# EAGLE library part CY8CKIT-059_BOTTOM_ROW (library CYKIT)
CY8CKIT-059 BOTTOM ROW This is the bottom row of pins of the CY8CKIT-059.
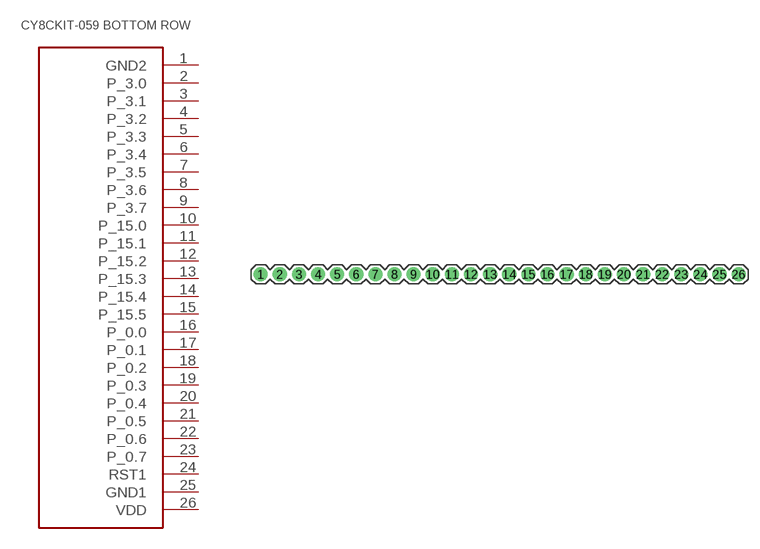
[diagram p6: symbol with the pads of CY8CKIT-059_TARGET_SINGLE_ROW; footprint CY8CKIT-059_TARGET_SINGLE_ROW]

Designator prefix -

## CY8CKIT-059_BOTTOM_ROW  [CY8CKIT-059_TARGET_SINGLE_ROW]
1  GND2  pas
2  P_3.0  pas
3  P_3.1  pas
4  P_3.2  pas
5  P_3.3  pas
6  P_3.4  pas
7  P_3.5  pas
8  P_3.6  pas
9  P_3.7  pas
10  P_15.0  pas
11  P_15.1  pas
12  P_15.2  pas
13  P_15.3  pas
14  P_15.4  pas
15  P_15.5  pas
16  P_0.0  pas
17  P_0.1  pas
18  P_0.2  pas
19  P_0.3  pas
20  P_0.4  pas
21  P_0.5  pas
22  P_0.6  pas
23  P_0.7  pas
24  RST1  pas
25  GND1  pas
26  VDD  pas

## Footprint CY8CKIT-059_TARGET_SINGLE_ROW (pad centres in mm)
Plated Through Hole -26 Specifications: Pin count:26 Pin pitch:0.1"
drill 1.016 pad 1.88: 1 0,0; 2 2.54,0; 3 5.08,0; 4 7.62,0; 5 10.16,0; 6 12.7,0; 7 15.24,0; 8 17.78,0; 9 20.32,0; 10 22.86,0; 11 25.4,0; 12 27.94,0; 13 30.48,0; 14 33.02,0; 15 35.56,0; 16 38.1,0; 17 40.64,0; 18 43.18,0; 19 45.72,0; 20 48.26,0; 21 50.8,0; 22 53.34,0; 23 55.88,0; 24 58.42,0; 25 60.96,0; 26 63.5,0